# Altium footprint library tps79633.PcbLib: 1 footprints
Each footprint in its own frame and in the unit in brackets; x right, y up, seen from the top. Pads: shape width x height; smd on the part's side, far side on the other; paste and mask are expansions set on the pad; w line width, h text height; cw(c..) or ccw(c..) is an arc to the next point about the centre after c.
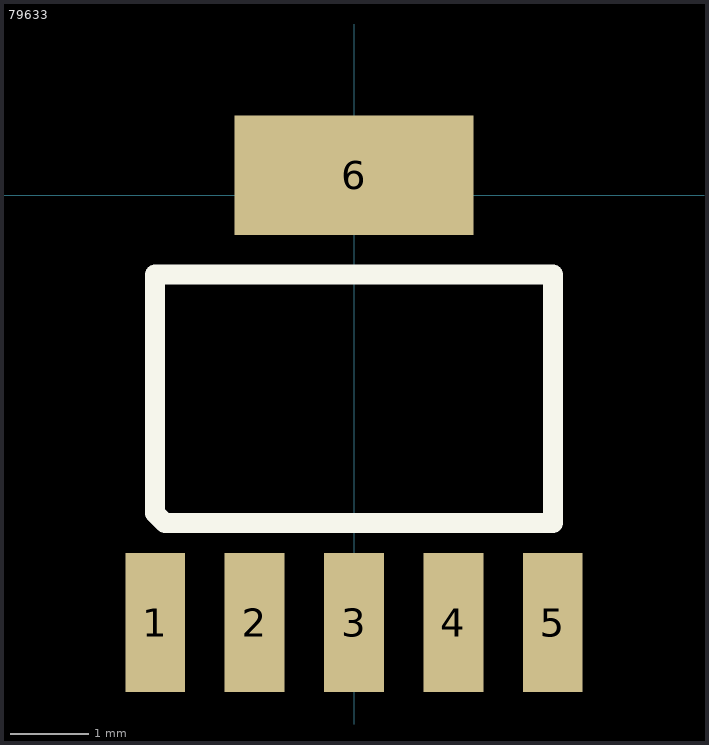
[diagram p0: the footprint, top view; thin cyan lines are the x and y axes]

## 79633 [mil]
pads (6):
  rect 30x70 smd: 1(-100,-215) 2(-50,-215) 3(0,-215) 4(50,-215) 5(100,-215)
  rect 120x60 smd: 6(0,10)
Top Overlay:
  lines w10: -100,-160 -95,-165 100,-165 100,-40 -100,-40 -100,-160